# Altium footprint library Potentiometer_SMD.PcbLib: 26 footprints (part 2 of 2)
Each footprint in its own frame and in the unit in brackets; x right, y up, seen from the top. Pads: shape width x height; smd on the part's side, far side on the other; paste and mask are expansions set on the pad; w line width, h text height; cw(c..) or ccw(c..) is an arc to the next point about the centre after c.
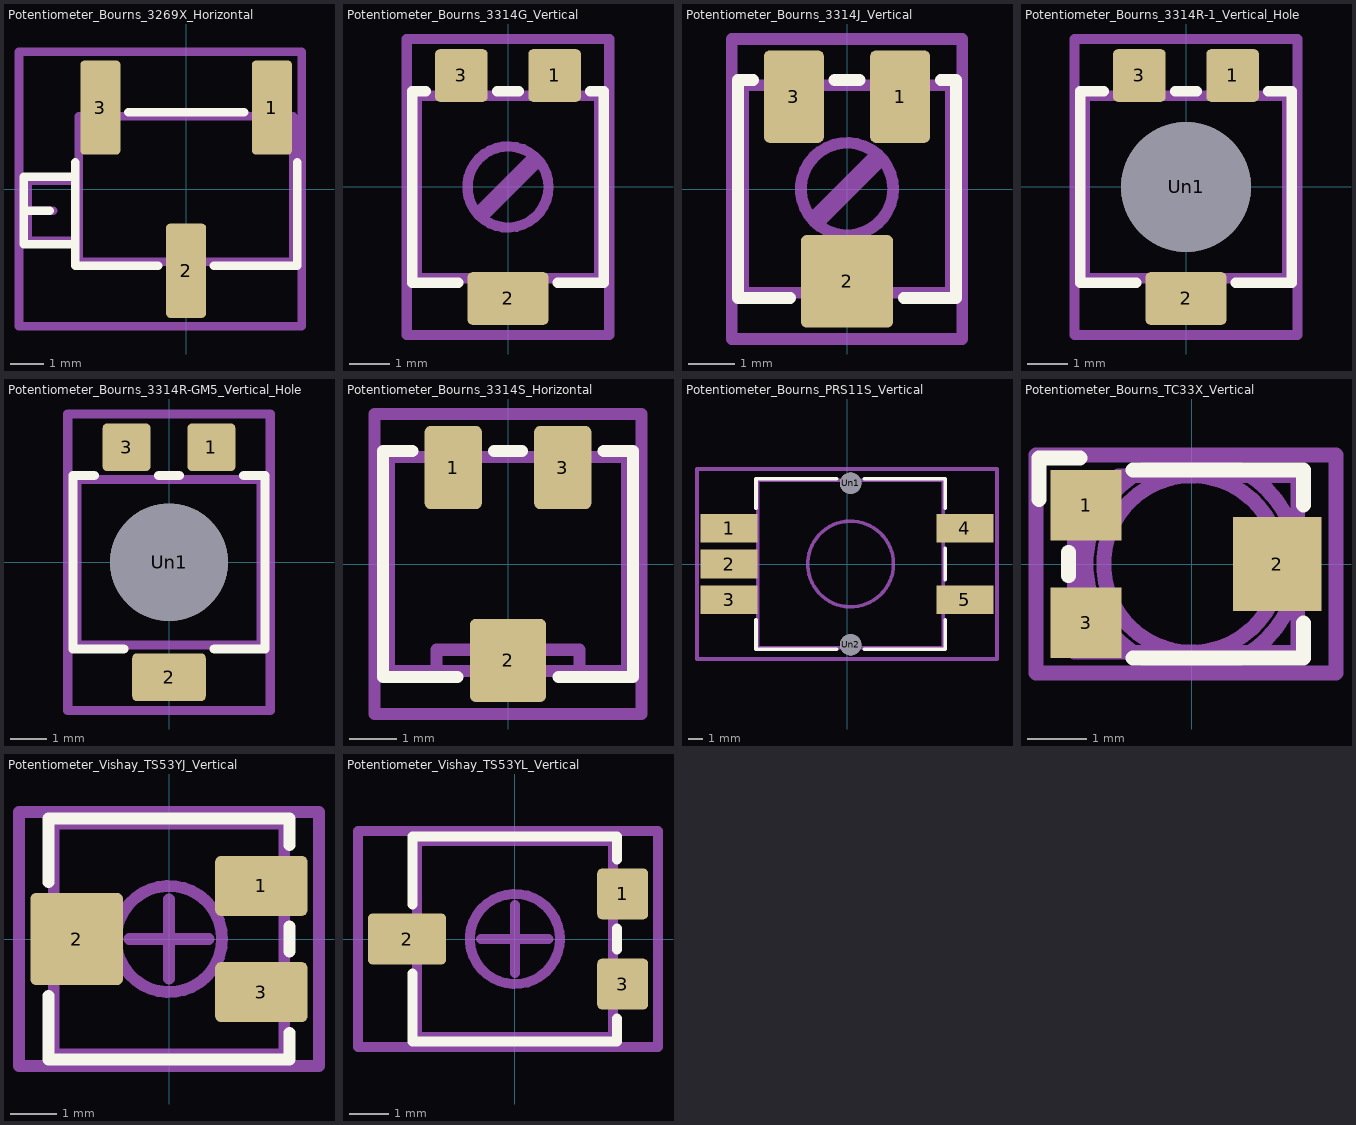
[diagram p1: the footprints below, top view; thin cyan lines are the x and y axes]

## Potentiometer_Bourns_3269X_Horizontal [mm]
pads (3):
  rrect21% 1.19x2.79 smd: 1(2.54,2.415) 2(0,-2.415) 3(-2.54,2.415)
F.SilkS:
  lines w0.254: -4.805,-0.635 -4.045,-0.635 ; -3.285,0.79 -3.285,-2.265 -0.825,-2.265 ; -1.715,2.275 1.715,2.275 ; 0.825,-2.265 3.285,-2.265 3.285,0.79 ; -4.805,-1.635 -3.285,-1.635 -3.285,0.365 -4.805,0.365 -4.805,-1.635
F.Fab:
  lines w0.254: -4.695,-0.635 -3.935,-0.635 ; -4.695,-1.525 -3.175,-1.525 -3.175,0.255 -4.695,0.255 -4.695,-1.525 ; -3.175,-2.155 3.175,-2.155 3.175,2.165 -3.175,2.165 -3.175,-2.155
  text "'.Designator'" at -4.047,-0.835 h1
F.CrtYd:
  lines w0.254: -4.95,-4.06 3.43,-4.06 3.43,4.07 -4.95,4.07 -4.95,-4.06

## Potentiometer_Bourns_3314G_Vertical [mm]
pads (3):
  rrect19% 1.3x1.3 smd: 1(1.15,2.75) 3(-1.15,2.75)
  rrect19% 2x1.3 smd: 2(0,-2.75)
F.SilkS:
  lines w0.254: -2.03,2.36 -2.36,2.36 -2.36,-2.36 -1.23,-2.36 ; -0.27,2.36 0.27,2.36 ; 1.23,-2.36 2.36,-2.36 2.36,2.36 2.03,2.36
F.Fab:
  circle w0.254: c0,0 r1
  lines w0.254: -0.758,-0.636 0.636,0.758 ; -0.636,-0.758 0.758,0.636 ; -2.25,-2.25 -2.25,2.25 2.25,2.25 2.25,-2.25 -2.25,-2.25
  text "'.Designator'" at -2.506,1.182 h0.62
F.CrtYd:
  lines w0.254: -2.5,-3.65 -2.5,3.65 2.5,3.65 2.5,-3.65 -2.5,-3.65
3D body "Potentiometer_Bourns_3314G_Vertical.step": height 2.52, standoff 0, extent -2.25,-3.1 2.25,3.1

## Potentiometer_Bourns_3314J_Vertical [mm]
pads (3):
  rrect19% 1.3x2 smd: 1(1.15,2) 3(-1.15,2)
  rrect12% 2x2 smd: 2(0,-2)
F.SilkS:
  lines w0.254: -2.03,2.36 -2.36,2.36 -2.36,-2.36 -1.23,-2.36 ; -0.27,2.36 0.27,2.36 ; 1.23,-2.36 2.36,-2.36 2.36,2.36 2.03,2.36
F.Fab:
  circle w0.254: c0,0 r1
  lines w0.254: -0.758,-0.636 0.636,0.758 ; -0.636,-0.758 0.758,0.636 ; -2.25,-2.25 -2.25,2.25 2.25,2.25 2.25,-2.25 -2.25,-2.25
  text "'.Designator'" at -2.506,1.182 h0.62
F.CrtYd:
  lines w0.254: -2.5,-3.25 -2.5,3.25 2.5,3.25 2.5,-3.25 -2.5,-3.25
3D body "Potentiometer_Bourns_3314J_Vertical.step": height 2.52, standoff 0, extent -2.25,-2.5 2.25,2.5

## Potentiometer_Bourns_3314R-1_Vertical_Hole [mm]
pads (4):
  rrect19% 1.3x1.3 smd: 1(1.15,2.75) 3(-1.15,2.75)
  rrect19% 2x1.3 smd: 2(0,-2.75)
  round 3.2 hole 3.2: Un1(0,0)
F.SilkS:
  lines w0.254: -2.03,2.36 -2.61,2.36 -2.61,-2.36 -1.23,-2.36 ; -0.27,2.36 0.27,2.36 ; 1.23,-2.36 2.61,-2.36 2.61,2.36 2.03,2.36
F.Fab:
  lines w0.254: -2.5,-2.25 -2.5,2.25 2.5,2.25 2.5,-2.25 -2.5,-2.25
  text "'.Designator'" at -2.506,1.182 h0.62
F.CrtYd:
  lines w0.254: -2.75,-3.65 -2.75,3.65 2.75,3.65 2.75,-3.65 -2.75,-3.65

## Potentiometer_Bourns_3314R-GM5_Vertical_Hole [mm]
pads (4):
  rrect19% 1.3x1.3 smd: 1(1.155,3.125) 3(-1.155,3.125)
  rrect19% 2x1.3 smd: 2(0,-3.125)
  round 3.2 hole 3.2: Un1(0,0)
F.SilkS:
  lines w0.254: -2.035,2.36 -2.61,2.36 -2.61,-2.36 -1.23,-2.36 ; -0.275,2.36 0.275,2.36 ; 1.23,-2.36 2.61,-2.36 2.61,2.36 2.035,2.36
F.Fab:
  lines w0.254: -2.5,-2.25 -2.5,2.25 2.5,2.25 2.5,-2.25 -2.5,-2.25
  text "'.Designator'" at -2.506,1.182 h0.62
F.CrtYd:
  lines w0.254: -2.75,-4.03 -2.75,4.03 2.75,4.03 2.75,-4.03 -2.75,-4.03

## Potentiometer_Bourns_3314S_Horizontal [mm]
pads (3):
  rrect21% 1.2x1.75 smd: 1(-1.15,2.025) 3(1.15,2.025)
  rrect16% 1.6x1.75 smd: 2(0,-2.025)
F.SilkS:
  lines w0.254: -2.01,2.37 -2.625,2.37 -2.625,-2.37 -1.06,-2.37 ; -0.29,2.37 0.29,2.37 ; 1.06,-2.37 2.625,-2.37 2.625,2.37 2.01,2.37
F.Fab:
  lines w0.254: -1.5,-2.25 -1.5,-1.8 1.5,-1.8 1.5,-2.25 ; -2.505,-2.25 -2.505,2.25 2.505,2.25 2.505,-2.25 -2.505,-2.25
  text "'.Designator'" at -4.047,-0.84 h1
F.CrtYd:
  lines w0.254: -2.8,-3.15 -2.8,3.15 2.8,3.15 2.8,-3.15 -2.8,-3.15

## Potentiometer_Bourns_PRS11S_Vertical [mm]
pads (7):
  rect 4x2 smd: 1(-8.25,2.5) 2(-8.25,0) 3(-8.25,-2.5) 4(8.25,2.5) 5(8.25,-2.5)
  round 1.5 hole 1.5: Un1(0.25,5.65) Un2(0.25,-5.65)
F.SilkS:
  lines w0.254: -6.37,-3.9 -6.37,-5.97 -0.723,-5.97 ; -6.37,3.9 -6.37,5.97 -0.723,5.97 ; 1.224,-5.97 6.87,-5.97 6.87,-3.9 ; 1.224,5.97 6.87,5.97 6.87,3.9 ; 6.87,-1.1 6.87,1.1
F.Fab:
  circle w0.254: c0.25,0 r3
  lines w0.254: -6.25,-5.85 -6.25,5.85 6.75,5.85 6.75,-5.85 -6.25,-5.85
  text "'.Designator'" at -4.41,-4.047 h1
F.CrtYd:
  lines w0.254: -10.5,-6.65 -10.5,6.65 10.5,6.65 10.5,-6.65 -10.5,-6.65

## Potentiometer_Bourns_TC33X_Vertical [mm]
pads (3):
  rect 1.2x1.2 smd: 1(-1.8,1) 3(-1.8,-1)
  rect 1.5x1.6 smd: 2(1.45,0)
F.SilkS:
  lines w0.254: -2.6,1.1 -2.6,1.8 -1.9,1.8 ; -2.1,-0.2 -2.1,0.2 ; -1,-1.6 1.9,-1.6 1.9,-1 ; -1,1.6 1.9,1.6 1.9,1
F.Fab:
  circle w0.254: c0,0 r1.5
  lines w0.254: -2,-1.5 -2,0.75 -1.25,1.5 1.8,1.5 1.8,-1.5 -2,-1.5
  text "'.Designator'" at -2.833,-0.588 h0.7
F.CrtYd:
  lines w0.254: -2.65,-1.85 -2.65,1.85 2.45,1.85 2.45,-1.85 -2.65,-1.85
Dwgs.User:
  circle w0.254: c0,0 r1.8
Cmts.User:
  text "Wiper may be / anywhere within / circle shown" at -0.963,0.416 h0.15

## Potentiometer_Vishay_TS53YJ_Vertical [mm]
pads (3):
  rrect19% 2x1.3 smd: 1(2,1.15) 3(2,-1.15)
  rrect12% 2x2 smd: 2(-2,0)
F.SilkS:
  lines w0.254: -2.61,-1.23 -2.61,-2.61 2.61,-2.61 2.61,-2.03 ; -2.61,1.23 -2.61,2.61 2.61,2.61 2.61,2.03 ; 2.61,-0.27 2.61,0.27
F.Fab:
  circle w0.254: c0,0 r1.15
  lines w0.254: -0.862,0 0.862,0 ; 0,-0.862 0,0.862 ; -2.5,-2.5 -2.5,2.5 2.5,2.5 2.5,-2.5 -2.5,-2.5
  text "'.Designator'" at -2.75,1.431 h0.68
F.CrtYd:
  lines w0.254: -3.25,-2.75 -3.25,2.75 3.25,2.75 3.25,-2.75 -3.25,-2.75

## Potentiometer_Vishay_TS53YL_Vertical [mm]
pads (3):
  rrect19% 1.3x1.3 smd: 1(2.75,1.15) 3(2.75,-1.15)
  rrect19% 2x1.3 smd: 2(-2.75,0)
F.SilkS:
  lines w0.254: -2.61,-0.88 -2.61,-2.61 2.61,-2.61 2.61,-2.03 ; -2.61,0.88 -2.61,2.61 2.61,2.61 2.61,2.03 ; 2.61,-0.27 2.61,0.27
F.Fab:
  circle w0.254: c0,0 r1.15
  lines w0.254: -0.862,0 0.862,0 ; 0,-0.862 0,0.862 ; -2.5,-2.5 -2.5,2.5 2.5,2.5 2.5,-2.5 -2.5,-2.5
  text "'.Designator'" at -2.75,1.431 h0.68
F.CrtYd:
  lines w0.254: -4,-2.75 -4,2.75 3.65,2.75 3.65,-2.75 -4,-2.75